# Altium schematic symbol library Capasitor.SchLib: 3 symbols
Pins are listed as number, name and electrical type; pins without a type are passive.

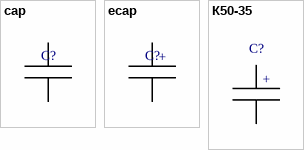
[diagram p0: symbols cap to К50-35]

## cap
designator C?  (value not drawn)
0402; Order: *
footprint 0402
footprint 0805
footprint 1206
footprint 1812
footprint 2220
footprint 0603
pins: 1, 2

## ecap
designator C?  (value not drawn)
footprint A
footprint B
footprint C
footprint D
footprint E
footprint CAPAE106102X105M (Aluminum Electrolytic Capacitor, Body 10,20x10,20x10,50mm, IPC Low Density)
footprint 8x10.5 (Aluminum Electrolytic Capacitor, Body 8,30x8,30x10,50mm, IPC Low Density)
pins: 1, 2
text: +

## К50-35
designator C?  (value not drawn)
footprint 13х25
footprint 16х32
footprint 13x25 v2
pins: 1, 2
text: +